# Altium schematic symbol library SL_Analog.SchLib: 2 symbols
Pins are listed as number, name and electrical type; pins without a type are passive.

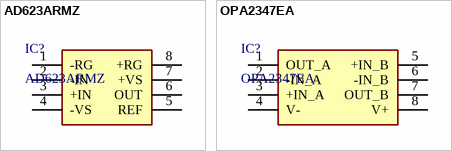
[diagram p0: symbols AD623ARMZ to OPA2347EA]

## AD623ARMZ
designator IC?
Integrated Circuit, Instr. Amp; Manufacturer_Name: Analog Devices; Datasheet Link: http://www.analog.com/static/imported-files/data_sheets/AD623.pdf; Height: 1.1mm; Manufacturer_Part_Number: AD623ARMZ; Mouser Part Number: 584-AD623ARMZ; Mouser Price/Stock: https://www.mouser.co.uk/ProductDetail/Analog-Devices/AD623ARMZ?qs=NmRFExCfTkHh9YiJNpc9iA%3D%3D; Arrow Part Number: AD623ARMZ; Arrow Price/Stock: https://www.arrow.com/en/products/ad623armz/analog-devices?utm_currency=USD&region=nac
footprint SOP65P490X110-8N
pins: 1 -RG, 2 -IN, 3 +IN, 4 -VS, 5 REF, 6 OUT, 7 +VS, 8 +RG

## OPA2347EA
designator IC?
Integrated Circuit, Oper. Amp; Manufacturer_Name: Texas Instruments; Datasheet Link: https://componentsearchengine.com/Datasheets/2/OPA2347EA.pdf; Height: 1.45mm; Manufacturer_Part_Number: OPA2347EA
footprint SOT65P280X145-8N
pins: 1 OUT_A, 2 -IN_A, 3 +IN_A, 4 V-, 5 +IN_B, 6 -IN_B, 7 OUT_B, 8 V+